# Altium footprint library LED.PcbLib: 35 footprints (part 3 of 3)
Each footprint in its own frame and in the unit in brackets; x right, y up, seen from the top. Pads: shape width x height; smd on the part's side, far side on the other; paste and mask are expansions set on the pad; w line width, h text height; cw(c..) or ccw(c..) is an arc to the next point about the centre after c.
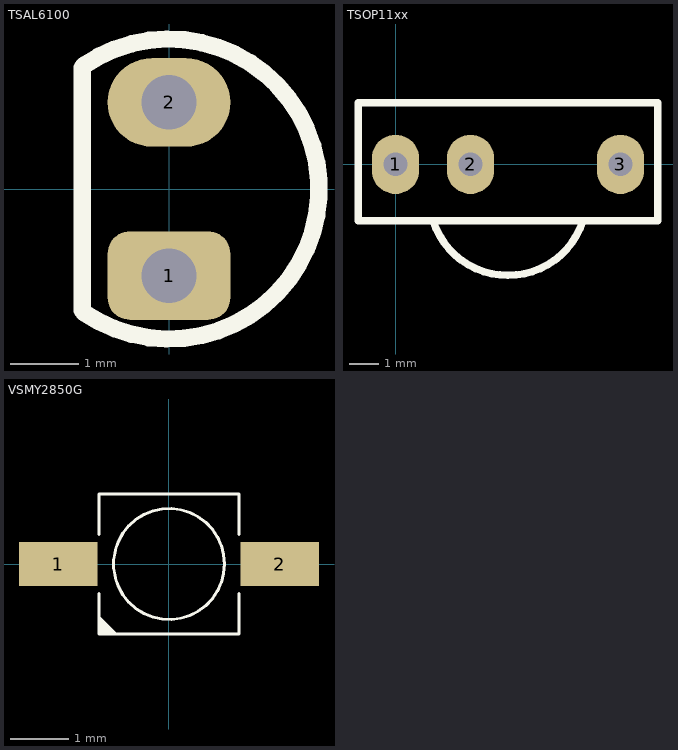
[diagram p2: the footprints below, top view; thin cyan lines are the x and y axes]

## TSAL6100 [mm]
pads (2):
  rrect50% 1.8x1.3 hole 0.8: 1(0,-1.27)
  oval 1.8x1.3 hole 0.8: 2(0,1.27)
Top Overlay:
  lines w0.254: -1.27,-1.778 -1.27,1.778 ; -1.252,-1.809 ccw(c0,0) -1.249,1.811
3D body "LED4.2MM WHT.step": height 6.2, standoff -3.6, extent -1.55,-2.099 2.1,2.099

## TSOP11xx [mm]
pads (3):
  oval 1.6x2 hole 0.8: 1(0,0) 2(2.54,0) 3(7.62,0)
Top Overlay:
  lines w0.254: 1.27,-1.905 ccw(c3.81,-1.092) 6.35,-1.905 ; -1.27,-1.905 -1.27,2.095 8.89,2.095 8.89,-1.905 -1.27,-1.905

## VSMY2850G [mm]
pads (2):
  rect 1.35x0.75 smd: 1(-1.9,0) 2(1.9,0)
Top Overlay:
  circle w0.051: c0,0 r0.953
  region: -1.2,-0.889 -1.2,-1.2 -0.889,-1.2
  lines w0.051: -1.2,-0.508 -1.2,-1.2 1.2,-1.2 1.2,-0.508 ; -1.2,0.508 -1.2,1.2 1.2,1.2 1.2,0.508